# Altium schematic symbol library SN74LV1T34.SchLib: 1 symbol
Pins are listed as number, name and electrical type; pins without a type are passive.

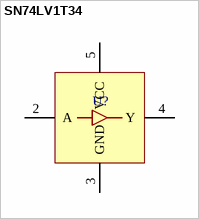
[diagram p0: symbol SN74LV1T34]

## SN74LV1T34
designator U?  (value not drawn)
pins: 2 A, 3 GND, 4 Y, 5 VCC